# EAGLE library part TPS61070 (library Explore Labs EAGLE Library)
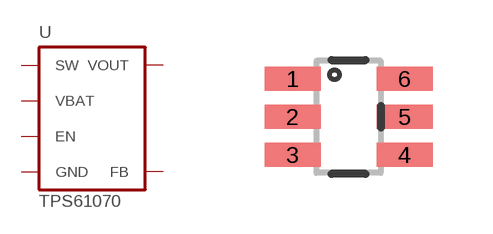
[diagram p11: symbol with the pads of DDC; footprint DDC]

Designator prefix -

## TPS61070  [DDC]
1  SW  pas
2  GND  sup
3  EN  in
4  FB  in
5  VOUT  out
6  VBAT  in

## Footprint DDC (pad centres in mm)
smd 1.4 x 0.6: 1 -1.4,0.95; 2 -1.4,0; 3 -1.4,-0.95; 4 1.4,-0.95; 5 1.4,0; 6 1.4,0.95